# Altium schematic symbol library 65300113722DEC.SchLib: 1 symbol
Pins are listed as number, name and electrical type; pins without a type are passive.

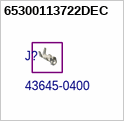
[diagram p0: symbol 65300113722DEC]

## 65300113722DEC
designator J?, comment 43645-0400  (mechanical)